# Altium footprint library SamacSys.PcbLib: 61 footprints (part 1 of 4)
Each footprint in its own frame and in the unit in brackets; x right, y up, seen from the top. Pads: shape width x height; smd on the part's side, far side on the other; paste and mask are expansions set on the pad; w line width, h text height; cw(c..) or ccw(c..) is an arc to the next point about the centre after c.
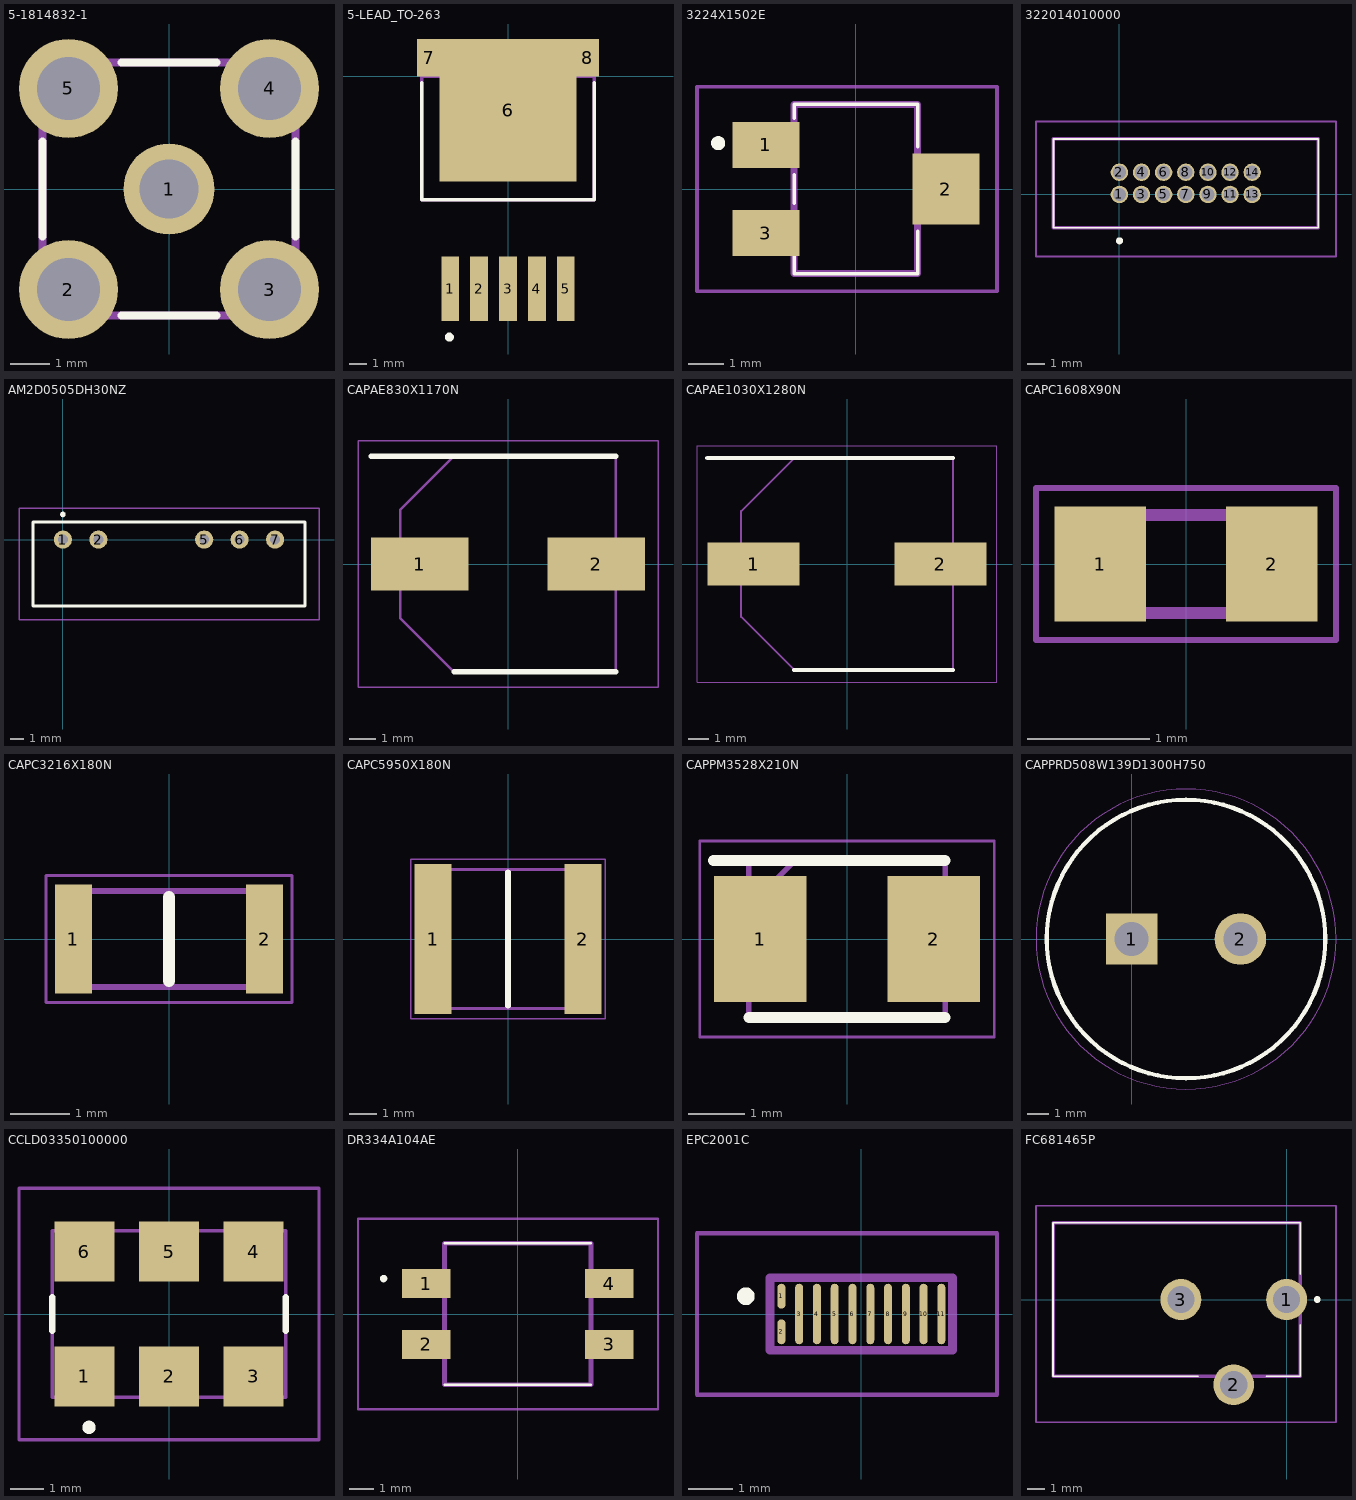
[diagram p0: the footprints below, top view; thin cyan lines are the x and y axes]

## 5-1814832-1 [mm]
pads (5):
  round 2.3 hole 1.5: 1(0,0)
  round 2.5 hole 1.6: 2(-2.54,-2.54) 3(2.54,-2.54) 4(2.54,2.54) 5(-2.54,2.54)
Top Overlay:
  lines w0.2: -3.2,-1.2 -3.2,1.2 ; -1.2,-3.2 1.2,-3.2 ; -1.2,3.2 1.2,3.2 ; 3.2,-1.2 3.2,1.2
Mechanical 13:
  lines w0.2: -3.2,-3.2 3.2,-3.2 3.2,3.2 -3.2,3.2 -3.2,-3.2
3D body "5-1814832-1.stp": height 9.5, standoff -4, extent -3.432,-3.432 3.432,3.432

## 5-LEAD_TO-263 [mm]
pads (8):
  rect 1.05x3.8 smd: 1(-3.404,-12.5) 2(-1.702,-12.5) 3(0,-12.5) 4(1.702,-12.5) 5(3.404,-12.5)
  rect 8.05x8.4 smd: 6(0,-2)
  rect 1.35x2.2 smd: 7(-4.675,1.1) 8(4.675,1.1)
Top Overlay:
  circle w0.3: c-3.455,-15.36 r0.113
  lines w0.2: -5.08,-0.379 -5.08,-7.26 5.08,-7.26 5.08,-0.379
Mechanical 13:
  lines w0.2: -5.08,-7.26 -5.08,0 5.08,0 5.08,-7.26 -5.08,-7.26

## 3224X1502E [mm]
pads (3):
  rect 1.9x1.3 smd: 1(-2.55,1.25) 3(-2.55,-1.25)
  rect 1.9x2 smd: 2(2.55,0)
Top Overlay:
  lines w0.1: -1.75,-1.6 -1.75,-2.4 1.75,-2.4 1.75,-1.2 ; -1.75,-0.4 -1.75,0.4 ; -1.75,2 -1.75,2.4 1.75,2.4 1.75,1.2
  lines w0.2: -3.9,1.2 ccw(c-3.9,1.3) -3.9,1.4 ccw(c-3.9,1.3) -3.9,1.2
Mechanical 13:
  lines w0.2: -1.75,-2.4 1.75,-2.4 1.75,2.4 -1.75,2.4 -1.75,-2.4
Mechanical 15:
  lines w0.1: -4.5,-2.9 4,-2.9 4,2.9 -4.5,2.9 -4.5,-2.9
3D body "3224X-1-105E.stp": height 5.1, standoff 0, extent -3.37,-2.4 3.31,2.4

## 322014010000 [mm]
pads (14):
  round 1 hole 0.75: 1(0,0) 2(0,1.27) 3(1.27,0) 4(1.27,1.27) 5(2.54,0) 6(2.54,1.27) 7(3.81,0) 8(3.81,1.27) 9(5.08,0) 10(5.08,1.27) 11(6.35,0) 12(6.35,1.27) 13(7.62,0) 14(7.62,1.27)
Top Overlay:
  lines w0.1: -3.785,-1.915 11.405,-1.915 11.405,3.185 -3.785,3.185 -3.785,-1.915
  lines w0.2: 0.01,-2.765 cw(c0.01,-2.665) 0.01,-2.565 cw(c0.01,-2.665) 0.01,-2.765
Mechanical 13:
  lines w0.2: -3.785,-1.915 11.405,-1.915 11.405,3.185 -3.785,3.185 -3.785,-1.915
Mechanical 15:
  lines w0.1: -4.785,-3.565 12.43,-3.565 12.43,4.185 -4.785,4.185 -4.785,-3.565
3D body "3220-14-0100-00.stp": height 5.7, standoff -5, extent -3.785,-1.915 11.405,3.185

## AM2D0505DH30NZ [mm]
pads (5):
  round 1.303 hole 0.7: 1(0,0) 2(2.54,0) 5(10.12,0) 6(12.66,0) 7(15.2,0)
Top Overlay:
  lines w0.2: 0,1.7 cw(c0,1.8) 0,1.9 ; 0,1.7 ccw(c0,1.8) 0,1.9 ; 0,1.7 cw(c0,1.8) 0,1.9 ; -2.15,-4.75 -2.15,1.25 17.35,1.25 17.35,-4.75 -2.15,-4.75
Mechanical 13:
  lines w0.1: -2.15,-4.75 -2.15,1.25 17.35,1.25 17.35,-4.75 -2.15,-4.75
Mechanical 15:
  lines w0.1: -3.15,-5.75 -3.15,2.25 18.35,2.25 18.35,-5.75 -3.15,-5.75
3D body "AM2D-0505DH30-NZ.stp": height 10.1, standoff -5, extent -2.15,-4.75 17.35,1.25

## CAPAE830X1170N [mm]
pads (2):
  rect 3.75x2.05 smd: 1(-3.4,0) 2(3.4,0)
Top Overlay:
  lines w0.2: -5.275,4.15 4.15,4.15 ; -2.075,-4.15 4.15,-4.15
Mechanical 13:
  lines w0.1: -4.15,-2.075 -2.075,-4.15 4.15,-4.15 4.15,4.15 -2.075,4.15 -4.15,2.075 -4.15,-2.075
Mechanical 15:
  lines w0.05: -5.775,-4.75 -5.775,4.75 5.775,4.75 5.775,-4.75 -5.775,-4.75
3D body "875075355004.stp": height 11.7, standoff 0, extent -4.5,-4.25 4.5,4.25

## CAPAE1030X1280N [mm]
pads (2):
  rect 4.5x2.1 smd: 1(-4.55,0) 2(4.55,0)
Top Overlay:
  lines w0.2: -6.8,5.15 5.15,5.15 ; -2.575,-5.15 5.15,-5.15
Mechanical 13:
  lines w0.1: -5.15,-2.575 -2.575,-5.15 5.15,-5.15 5.15,5.15 -2.575,5.15 -5.15,2.575 -5.15,-2.575
Mechanical 15:
  lines w0.05: -7.3,-5.75 -7.3,5.75 7.3,5.75 7.3,-5.75 -7.3,-5.75
3D body "B40900B5477M000.stp": height 12.8, standoff 0, extent -6,-5.25 6,5.25

## CAPC1608X90N [mm]
pads (2):
  rect 0.75x0.94 smd: 1(-0.7,0) 2(0.7,0)
Mechanical 13:
  lines w0.1: -0.8,-0.4 -0.8,0.4 0.8,0.4 0.8,-0.4 -0.8,-0.4
Mechanical 15:
  lines w0.05: -1.225,-0.62 -1.225,0.62 1.225,0.62 1.225,-0.62 -1.225,-0.62
3D body "GRM188R71E105KA12D.stp": height 0.9, standoff 0, extent -0.8,-0.4 0.8,0.4

## CAPC3216X180N [mm]
pads (2):
  rect 0.62x1.82 smd: 1(-1.6,0) 2(1.6,0)
Top Overlay:
  lines w0.2: 0,-0.7 0,0.7
Mechanical 13:
  lines w0.1: -1.6,-0.8 -1.6,0.8 1.6,0.8 1.6,-0.8 -1.6,-0.8
Mechanical 15:
  lines w0.05: -2.06,-1.06 -2.06,1.06 2.06,1.06 2.06,-1.06 -2.06,-1.06
3D body "C3216X5R0J226M160AA.stp": height 1.8, standoff 0, extent -1.6,-0.8 1.6,0.8

## CAPC5950X180N [mm]
pads (2):
  rect 1.33x5.41 smd: 1(-2.69,0) 2(2.69,0)
Top Overlay:
  lines w0.2: 0,-2.4 0,2.4
Mechanical 13:
  lines w0.1: -2.95,-2.5 -2.95,2.5 2.95,2.5 2.95,-2.5 -2.95,-2.5
Mechanical 15:
  lines w0.05: -3.505,-2.86 -3.505,2.86 3.505,2.86 3.505,-2.86 -3.505,-2.86
3D body "CKC21C472JJGACAUTO.stp": height 1.8, standoff 0, extent -2.95,-2.5 2.95,2.5

## CAPPM3528X210N [mm]
pads (2):
  rect 1.65x2.25 smd: 1(-1.55,0) 2(1.55,0)
Top Overlay:
  lines w0.2: -2.375,1.4 1.75,1.4 ; -1.75,-1.4 1.75,-1.4
Mechanical 13:
  lines w0.1: -1.75,0.575 -0.925,1.4 ; -1.75,-1.4 -1.75,1.4 1.75,1.4 1.75,-1.4 -1.75,-1.4
Mechanical 15:
  lines w0.05: -2.625,-1.75 -2.625,1.75 2.625,1.75 2.625,-1.75 -2.625,-1.75
3D body "T491B107K006AT.stp": height 2.1, standoff 0, extent -1.75,-1.4 1.75,1.4

## CAPPRD508W139D1300H750 [mm]
pads (2):
  rect 2.4x2.4 hole 1.6: 1(0,0)
  round 2.4 hole 1.6: 2(5.08,0)
Top Overlay:
  circle w0.2: c2.54,0 r6.5
Mechanical 13:
  circle w0.1: c2.54,0 r6.5
Mechanical 15:
  circle w0.05: c2.54,0 r7
3D body "FGH0V474ZF.stp": height 7.5, standoff -10, extent -4.21,-6.747 9.29,6.747

## CCLD03350100000 [mm]
pads (6):
  rect 1.8x1.8 smd: 1(-2.54,-1.875) 2(0,-1.875) 3(2.54,-1.875) 4(2.54,1.875) 5(0,1.875) 6(-2.54,1.875)
Top Overlay:
  lines w0.2: -2.4,-3.5 ccw(c-2.4,-3.4) -2.4,-3.3 ; -2.4,-3.5 cw(c-2.4,-3.4) -2.4,-3.3 ; -2.4,-3.5 ccw(c-2.4,-3.4) -2.4,-3.3 ; -3.5,-0.5 -3.5,0.5 -3.5,-0.5 ; 3.5,-0.5 3.5,0.5 3.5,-0.5
Mechanical 13:
  lines w0.1: -3.5,-2.5 -3.5,2.5 3.5,2.5 3.5,-2.5 -3.5,-2.5
Mechanical 15:
  lines w0.1: -4.5,-3.775 -4.5,3.775 4.5,3.775 4.5,-3.775 -4.5,-3.775
3D body "CCLD-033-50-100.000.stp": height 1.9, standoff 0, extent -3.5,-2.595 3.5,2.595

## DR334A104AE [mm]
pads (4):
  rect 2x1.2 smd: 1(-3.75,1.25) 2(-3.75,-1.25) 3(3.75,-1.25) 4(3.75,1.25)
Top Overlay:
  lines w0.1: -3,-2.9 3,-2.9 -3,-2.9 ; -3,2.9 3,2.9 -3,2.9
  lines w0.2: -5.5,1.4 ccw(c-5.5,1.45) -5.5,1.5 ; -5.5,1.4 cw(c-5.5,1.45) -5.5,1.5 ; -5.5,1.4 ccw(c-5.5,1.45) -5.5,1.5
Mechanical 13:
  lines w0.2: -3,-2.9 -3,2.9 3,2.9 3,-2.9 -3,-2.9
Mechanical 15:
  lines w0.1: -6.55,-3.9 -6.55,3.9 5.75,3.9 5.75,-3.9 -6.55,-3.9
3D body "DR334A-113BE.stp": height 3.61, standoff 0, extent -4.2,-3 4.2,3

## EPC2001C [mm]
pads (11):
  rrect100% 0.18x0.56 smd: 1(-1.8,0.401) 2(-1.8,-0.401)
  rrect100% 0.18x1.362 smd: 3(-1.4,0) 4(-1,0) 5(-0.6,0) 6(-0.2,0) 7(0.2,0) 8(0.6,0) 9(1,0) 10(1.4,0) 11(1.8,0)
Top Overlay:
  lines w0.2: -2.6,0.3 ccw(c-2.6,0.4) -2.6,0.5 ccw(c-2.6,0.4) -2.6,0.3
Mechanical 13:
  lines w0.2: -2.053,-0.816 -2.053,0.816 2.053,0.816 2.053,-0.816 -2.053,-0.816
Mechanical 15:
  lines w0.1: -3.7,-1.816 -3.7,1.816 3.053,1.816 3.053,-1.816 -3.7,-1.816
3D body "EPC2001C.stp": height 0.91, standoff 0.1, extent -2.053,-0.816 2.053,0.816

## FC681465P [mm]
pads (3):
  round 2.4 hole 1.6: 1(0,0) 2(-3.1,-5) 3(-6.2,0)
Top Overlay:
  lines w0.1: -5.2,-4.5 -13.7,-4.5 -13.7,4.5 0.8,4.5 0.8,1.5 ; -1.2,-4.5 0.8,-4.5 0.8,-1.5
  lines w0.2: 1.8,-0.1 ccw(c1.8,0) 1.8,0.1 ccw(c1.8,0) 1.8,-0.1
Mechanical 13:
  lines w0.2: -13.7,-4.5 -13.7,4.5 0.8,4.5 0.8,-4.5 -13.7,-4.5
Mechanical 15:
  lines w0.1: -14.7,-7.2 -14.7,5.5 2.9,5.5 2.9,-7.2 -14.7,-7.2
3D body "FC681465P.stp": height 11.1, standoff -5, extent -13.7,-5.699 0.8,4.5